# EAGLE library part SZ05-ZIGBEE-COMPACT (library lpatiny)
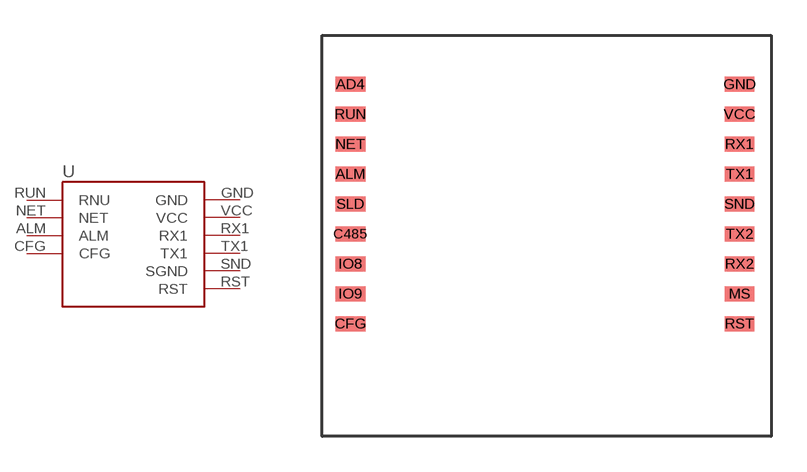
[diagram p27: symbol with the pads of SZ05-ZIGBEE3-COMPACT; footprint SZ05-ZIGBEE3-COMPACT]

Designator prefix -

## SZ05-ZIGBEE-COMPACT  [SZ05-ZIGBEE3-COMPACT]
ALM  ALM
CFG  CFG
GND  GND
NET  NET
RST  RST
RUN  RNU
RX1  RX1
SND  SGND
TX1  TX1
VCC  VCC

## Footprint SZ05-ZIGBEE3-COMPACT (pad centres in mm)
smd 1.27 x 0.635: AD4 -8.89,2.54; ALM -8.89,-1.27; C485 -8.89,-3.81; CFG -8.89,-7.62; GND 7.62,2.54; IO8 -8.89,-5.08; IO9 -8.89,-6.35; MS 7.62,-6.35; NET -8.89,0; RST 7.62,-7.62; RUN -8.89,1.27; RX1 7.62,0; RX2 7.62,-5.08; SLD -8.89,-2.54; SND 7.62,-2.54; TX1 7.62,-1.27; TX2 7.62,-3.81; VCC 7.62,1.27